# Altium footprint library SM10B-GHS-TB(LF)(SN).PcbLib: 1 footprints
Each footprint in its own frame and in the unit in brackets; x right, y up, seen from the top. Pads: shape width x height; smd on the part's side, far side on the other; paste and mask are expansions set on the pad; w line width, h text height; cw(c..) or ccw(c..) is an arc to the next point about the centre after c.
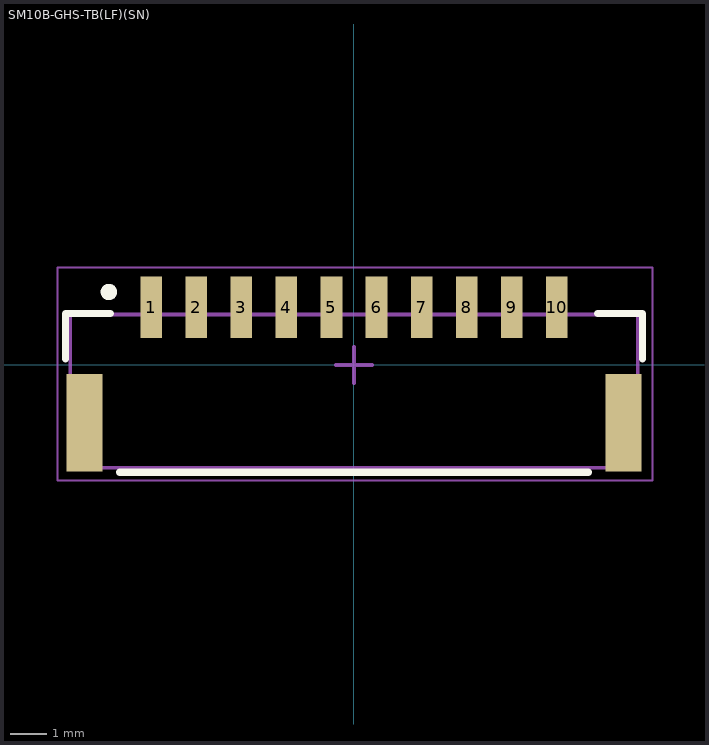
[diagram p0: the footprint, top view; thin cyan lines are the x and y axes]

## SM10B-GHS-TB(LF)(SN) [mm]
pads (12):
  rect 0.6x1.7 smd: 1(-5.625,1.6) 2(-4.375,1.6) 3(-3.125,1.6) 4(-1.875,1.6) 5(-0.625,1.6) 6(0.625,1.6) 7(1.875,1.6) 8(3.125,1.6) 9(4.375,1.6) 10(5.625,1.6)
  rect 1x2.7 smd: ""(-7.475,-1.6) ""(7.475,-1.6)
Top Overlay:
  circle w0.254: c-6.8,2.025 r0.1
  lines w0.2: -8,0.175 -8,1.425 -6.75,1.425 ; -6.5,-2.975 6.5,-2.975 ; 6.75,1.425 8,1.425 8,0.175
Mechanical 1:
  lines w0.1: -7.875,-2.85 -7.875,1.4 7.875,1.4 7.875,-2.85 -7.875,-2.85
  text ".Designator" at -3.374,-1.458 h0.65
Mechanical 2:
  lines w0.05: -8.225,-3.2 8.275,-3.2 8.275,2.7 -8.225,2.7 -8.225,-3.2
  lines w0.1: -0.5,0 0.5,0 ; 0,-0.5 0,0.5
3D body "SM10B-GHS-TB.STEP": height 4.35, standoff 0, extent -7.875,-2.85 7.875,2